# Altium schematic symbol library Resistor_0805.SchLib: 257 symbols (part 1 of 5)
Pins are listed as number, name and electrical type; pins without a type are passive.

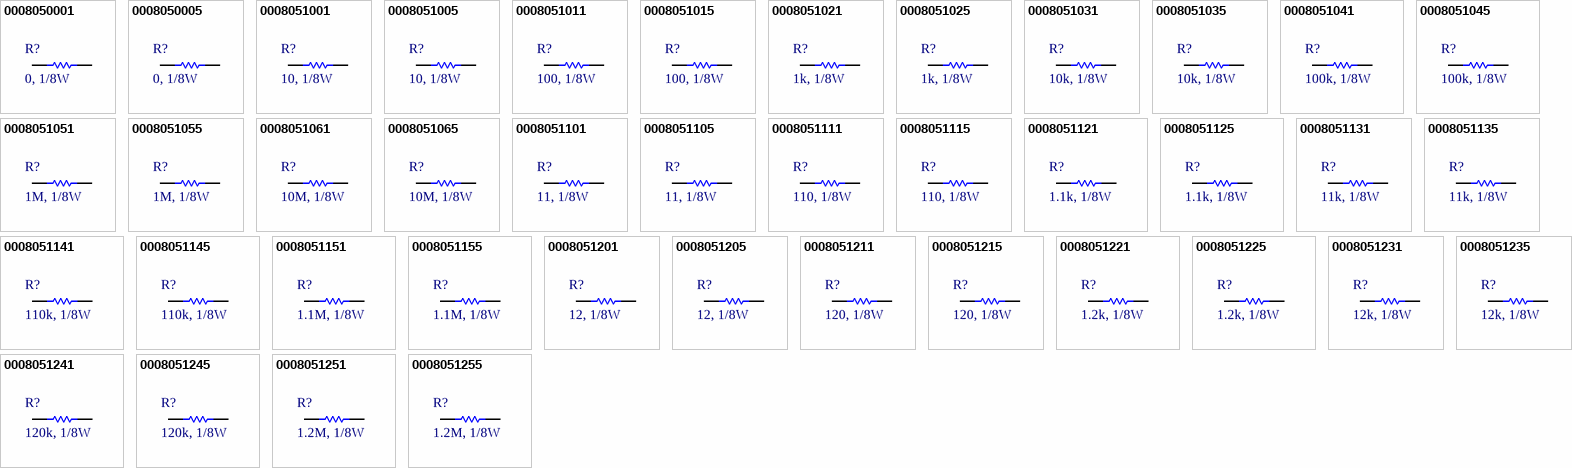
[diagram p0: symbols 0008050001 to 0008051255]

## 0008050001
designator R?, comment 0, 1/8W
RES, 0 Ohm, size 0805, 1%; Resistance tolerance: +/-1%; Resistance: 0; Size: 0805; Mounting Technology: SMT; Rated Power: 1/8 W; Datasheet: *; ComponentLink1Description: Datasheet link; ComponentLink1URL: *; Supply 1 Name: *; Supply 1 SN: *; Supply 1 URL: *; Supply 2 Name: *; Supply 2 SN: *; Supply 2 URL: *; Supply 3 Name: *; Supply 3 SN: *; Supply 3 URL: *; Manufacture  Name: *; Manufacture  SN: *
footprint RESC2012X04N (Chip Resistor, 2-Leads, Body 2,00x1,20mm, IPC Medium Density)
pins: 1, 2

## 0008050005
designator R?, comment 0, 1/8W
RES, 0 Ohm, size 0805, 5%; Resistance tolerance: +/-1%; Resistance: 0; Size: 0805; Mounting Technology: SMT; Rated Power: 1/8 W; Datasheet: *; ComponentLink1Description: Datasheet link; ComponentLink1URL: *; Supply 1 Name: *; Supply 1 SN: *; Supply 1 URL: *; Supply 2 Name: *; Supply 2 SN: *; Supply 2 URL: *; Supply 3 Name: *; Supply 3 SN: *; Supply 3 URL: *; Manufacture  Name: *; Manufacture  SN: *
footprint RESC2012X04N (Chip Resistor, 2-Leads, Body 2,00x1,20mm, IPC Medium Density)
pins: 1, 2

## 0008051001
designator R?, comment 10, 1/8W
RES, 10 Ohm, size 0805, 1%; Manufacture  Name: Vishay Dale Thin Film; Manufacture  SN: M55342H06B10D0RT5; Resistance tolerance: +/-1%; Resistance: 10; Supply 1 Name: DigiKey; Supply 1 SN: 764-M55342H06B10D0RT5TR-ND; Supply 2 Name: Mouser; Supply 2 SN: 71-CRCW080510R0FKEAH; Supply 3 Name: ThegioiIC; Size: 0805; Mounting Technology: SMT; Rated Power: 1/8 W; Datasheet: https://www.vishay.com/docs/60018/eh.pdf; ComponentLink1Description: Datasheet link; ComponentLink1URL: *; Supply 1 URL: https://www.digikey.com/en/products/detail/vishay-dale-thin-film/M55342H06B10D0RT5/3580812; Supply 2 URL: https://www.mouser.vn/ProductDetail/Vishay-Dale/CRCW080510R0FKEAHP?qs=sGAEpiMZZMtlubZbdhIBIB2QTI7Ai3Wq221SUXRDybo%3D; Supply 3 SN: *; Supply 3 URL: https://www.thegioiic.com/dien-tro-10-ohm-0805-1-
footprint RESC2012X04N (Chip Resistor, 2-Leads, Body 2,00x1,20mm, IPC Medium Density)
pins: 1, 2

## 0008051005
designator R?, comment 10, 1/8W
RES, 10 Ohm, size 0805, 5%; Manufacture  Name: TE Connectivity Passive Product; Manufacture  SN: CRGCQ0805J10R; Resistance tolerance: +/-5%; Resistance: 10; Supply 1 Name: DigiKey; Supply 1 SN: A130122TR-ND; Supply 2 Name: Mouser; Supply 2 SN: 71-CRCW080510R0JNEB; Supply 3 Name: ThegioiIC; Size: 0805; Mounting Technology: SMT; Rated Power: 1/8 W; Datasheet: https://www.te.com/usa-en/product-2176342-7.datasheet.pdf; ComponentLink1Description: Datasheet link; ComponentLink1URL: *; Supply 1 URL: https://www.digikey.com/en/products/detail/vishay-dale-thin-film/M55342H06B10D0RT5/3580812; Supply 2 URL: https://www.mouser.vn/ProductDetail/Vishay-Dale/CRCW080510R0JNEB?qs=LOX6nxTstiYdzgklIYN6GQ%3D%3D; Supply 3 SN: *; Supply 3 URL: https://www.thegioiic.com/dien-tro-10-ohm-0805-5-
footprint RESC2012X04N (Chip Resistor, 2-Leads, Body 2,00x1,20mm, IPC Medium Density)
pins: 1, 2

## 0008051011
designator R?, comment 100, 1/8W
RES, 100 Ohm, size 0805, 1%; Manufacture  Name: Vishay Dale Thin Film; Manufacture  SN: CRCW0805100RFKEB; Resistance tolerance: +/-1%; Resistance: 100; Supply 1 Name: DigiKey; Supply 1 SN: Y1624100R000F9R-ND; Supply 2 Name: Mouser; Supply 2 SN: 71-CRCW0805100RFKEB; Supply 3 Name: ThegioiIC; Size: 0805; Mounting Technology: SMT; Rated Power: 1/8 W; Datasheet: https://media.digikey.com/pdf/Data%20Sheets/Vishay%20Resistors/VSMP_Series_Z_Series_DS.pdf; ComponentLink1Description: Datasheet link; ComponentLink1URL: *; Supply 1 URL: https://www.digikey.com/en/products/detail/vpg-foil-resistors/Y1624100R000F9R/6026579; Supply 2 URL: https://www.mouser.vn/ProductDetail/Vishay-Dale/CRCW0805100RFKEB?qs=sGAEpiMZZMtlubZbdhIBIKpw3Cj3Rl3MFHVHXIgVmtw%3D; Supply 3 SN: *; Supply 3 URL: https://www.thegioiic.com/dien-tro-100-ohm-0805-1-
footprint RESC2012X04N (Chip Resistor, 2-Leads, Body 2,00x1,20mm, IPC Medium Density)
pins: 1, 2

## 0008051015
designator R?, comment 100, 1/8W
RES, 100 Ohm, size 0805, 5%; Manufacture  Name: Vishay Dale; Manufacture  SN: CRCW0805100RJNEAC; Resistance tolerance: +/-5%; Resistance: 100; Supply 1 Name: DigiKey; Supply 1 SN: 541-4166-2-ND; Supply 2 Name: Mouser; Supply 2 SN: 71-CRCW0805100RJNEA; Supply 3 Name: ThegioiIC; Size: 0805; Mounting Technology: SMT; Rated Power: 1/8 W; Datasheet: https://www.vishay.com/docs/28773/crcwce3.pdf; ComponentLink1Description: Datasheet link; ComponentLink1URL: *; Supply 1 URL: https://www.digikey.com/en/products/detail/vishay-dale/CRCW0805100RJNEAC/7928588; Supply 2 URL: https://www.mouser.vn/ProductDetail/Vishay-Dale/CRCW0805100RJNEA?qs=LOX6nxTstiYU5x3Np6dR5Q%3D%3D; Supply 3 SN: *; Supply 3 URL: https://www.thegioiic.com/dien-tro-100-ohm-0805-5
footprint RESC2012X04N (Chip Resistor, 2-Leads, Body 2,00x1,20mm, IPC Medium Density)
pins: 1, 2

## 0008051021
designator R?, comment 1k, 1/8W
RES, 1k Ohm, size 0805, 1%; Manufacture  Name: Vishay Dale; Manufacture  SN: M55342K06B1E00RS3; Resistance tolerance: +/-1%; Supply 1 Name: DigiKey; Supply 1 SN: 1135-1001-2-ND; Supply 3 Name: ThegioiIC; Size: 0805; Mounting Technology: SMT; Rated Power: 1/8 W; Datasheet: https://www.vishay.com/docs/31010/rcwpm.pdf; Resistance: 1k; ComponentLink1Description: Datasheet link; ComponentLink1URL: *; Supply 1 URL: https://www.digikey.com/en/products/detail/vishay-dale/M55342K06B1E00RS3/2941798; Supply 2 Name: *; Supply 2 SN: *; Supply 2 URL: *; Supply 3 SN: *; Supply 3 URL: https://www.thegioiic.com/dien-tro-1-kohm-0805-1
footprint RESC2012X04N (Chip Resistor, 2-Leads, Body 2,00x1,20mm, IPC Medium Density)
pins: 1, 2

## 0008051025
designator R?, comment 1k, 1/8W
RES, 1k Ohm, size 0805, 5%; Manufacture  Name: Vishay Dale; Manufacture  SN: CRCW08051K00JNEAC; Resistance tolerance: +/-5%; Supply 1 Name: DigiKey; Supply 1 SN: 541-4162-2-ND; Supply 2 Name: Mouser; Supply 2 SN: 71-CRCW08051K00JNEC; Supply 3 Name: ThegioiIC; Size: 0805; Mounting Technology: SMT; Rated Power: 1/8 W; Datasheet: https://www.vishay.com/docs/28773/crcwce3.pdf; Resistance: 1k; ComponentLink1Description: Datasheet link; ComponentLink1URL: *; Supply 1 URL: https://www.digikey.com/en/products/detail/vishay-dale/CRCW08051K00JNEAC/7928584; Supply 2 URL: https://www.mouser.vn/ProductDetail/Vishay-Dale/CRCW08051K00JNEC?qs=OW6ROCK%252BaiZqKFsNe9zjFw%3D%3D; Supply 3 SN: *; Supply 3 URL: https://www.thegioiic.com/dien-tro-1-kohm-0805-5-
footprint RESC2012X04N (Chip Resistor, 2-Leads, Body 2,00x1,20mm, IPC Medium Density)
pins: 1, 2

## 0008051031
designator R?, comment 10k, 1/8W
RES, 10k Ohm, size 0805, 1%; Resistance tolerance: +/-1%; Supply 3 Name: ThegioiIC; Size: 0805; Mounting Technology: SMT; Rated Power: 1/8 W; Datasheet: *; Resistance: 10k; ComponentLink1Description: Datasheet link; ComponentLink1URL: *; Supply 1 Name: *; Supply 1 SN: *; Supply 1 URL: *; Supply 2 Name: *; Supply 2 SN: *; Supply 2 URL: *; Supply 3 SN: *; Supply 3 URL: https://www.thegioiic.com/dien-tro-1-kohm-0805-1; Manufacture  Name: *; Manufacture  SN: *
footprint RESC2012X04N (Chip Resistor, 2-Leads, Body 2,00x1,20mm, IPC Medium Density)
pins: 1, 2

## 0008051035
designator R?, comment 10k, 1/8W
RES, 10k Ohm, size 0805, 5%; Manufacture  Name: Vishay Dale; Manufacture  SN: CRCW080510K0JNEAC; Resistance tolerance: +/-5%; Supply 1 Name: DigiKey; Supply 1 SN: 541-4163-2-ND; Supply 2 Name: Mouser; Supply 2 SN: 71-CRCW080510K0JNEB; Supply 3 Name: ThegioiIC; Size: 0805; Mounting Technology: SMT; Rated Power: 1/8 W; Datasheet: https://www.vishay.com/docs/28773/crcwce3.pdf; Resistance: 10k; ComponentLink1Description: Datasheet link; ComponentLink1URL: *; Supply 1 URL: https://www.digikey.com/en/products/detail/vishay-dale/CRCW080510K0JNEAC/7928585; Supply 2 URL: https://www.mouser.vn/ProductDetail/Vishay-Dale/CRCW080510K0JNEB?qs=LOX6nxTstiZ5fn9YUdHx5A%3D%3D; Supply 3 SN: *; Supply 3 URL: CRCW080510K0JNEAC
footprint RESC2012X04N (Chip Resistor, 2-Leads, Body 2,00x1,20mm, IPC Medium Density)
pins: 1, 2

## 0008051041
designator R?, comment 100k, 1/8W
RES, 100k Ohm, size 0805, 1%; Manufacture  Name: Vishay Dale; Manufacture  SN: M55342K06B100ERS3; Resistance tolerance: +/-1%; Supply 1 Name: DigiKey; Supply 1 SN: 1135-1002-2-ND; Supply 3 Name: ThegioiIC; Size: 0805; Mounting Technology: SMT; Rated Power: 1/8 W; Datasheet: *; Resistance: 100k; ComponentLink1Description: Datasheet link; ComponentLink1URL: *; Supply 1 URL: https://www.digikey.com/en/products/detail/vishay-dale/M55342K06B100ERS3/2941800; Supply 2 Name: *; Supply 2 SN: *; Supply 2 URL: *; Supply 3 SN: *; Supply 3 URL: M55342K06B100ERS3
footprint RESC2012X04N (Chip Resistor, 2-Leads, Body 2,00x1,20mm, IPC Medium Density)
pins: 1, 2

## 0008051045
designator R?, comment 100k, 1/8W
RES, 100k Ohm, size 0805, 5%; Manufacture  Name: Vishay Dale; Manufacture  SN: CRCW0805100KJNEAC; Resistance tolerance: +/-5%; Supply 1 Name: DigiKey; Supply 1 SN: 541-4164-2-ND; Supply 2 Name: Mouser; Supply 2 SN: 71-CRCW0805100KJNEC; Supply 3 Name: ThegioiIC; Size: 0805; Mounting Technology: SMT; Rated Power: 1/8 W; Datasheet: https://www.vishay.com/docs/28773/crcwce3.pdf; Resistance: 100k; ComponentLink1Description: Datasheet link; ComponentLink1URL: *; Supply 1 URL: https://www.digikey.com/en/products/detail/vishay-dale/CRCW0805100KJNEAC/7928586; Supply 2 URL: https://www.mouser.vn/ProductDetail/Vishay-Dale/CRCW0805100KJNEC?qs=waxnFHLl2hDcBYyAQZ2bVA%3D%3D; Supply 3 SN: *; Supply 3 URL: M55342K06B100ERS3
footprint RESC2012X04N (Chip Resistor, 2-Leads, Body 2,00x1,20mm, IPC Medium Density)
pins: 1, 2

## 0008051051
designator R?, comment 1M, 1/8W
RES, 1M Ohm, size 0805, 1%; Manufacture  Name: Vishay Dale; Manufacture  SN: M55342K06B1F00RS3; Resistance tolerance: +/-1%; Supply 1 Name: DigiKey; Supply 1 SN: 1135-1009-2-ND; Supply 3 Name: ThegioiIC; Size: 0805; Mounting Technology: SMT; Rated Power: 1/8 W; Datasheet: *; Resistance: 1M; ComponentLink1Description: Datasheet link; ComponentLink1URL: *; Supply 1 URL: https://www.digikey.com/en/products/detail/vishay-dale/M55342K06B1F00RS3/2941807?s=N4IgjCBcoMxaBjKAzAhgGwM4FMA0IB7KAbXDBggF18AHAFyhAGU6AnASwDsBzEAX3xgAbPBBJIaLHkIkQMAJwwATPJDUQ9Riw49%2B%2BACwjoYlBhz4ikUgA4A7MrW0GkZmy68BIJQAZrAVlFxSXMZK3AAAgBZAHkACwBbTEcNZxAAVU52OmjkSOxUTABXVmx%2BPj4gA; Supply 2 Name: *; Supply 2 SN: *; Supply 2 URL: *; Supply 3 SN: *; Supply 3 URL: https://www.thegioiic.com/dien-tro-1-mohm-0805-1
footprint RESC2012X04N (Chip Resistor, 2-Leads, Body 2,00x1,20mm, IPC Medium Density)
pins: 1, 2

## 0008051055
designator R?, comment 1M, 1/8W
RES, 1M Ohm, size 0805, 5%; Manufacture  Name: Vishay Dale; Manufacture  SN: CRCW08051M00JNEAC; Resistance tolerance: +/-5%; Supply 1 Name: DigiKey; Supply 1 SN: 541-CRCW08051M00JNEACTR-ND; Supply 2 Name: Mouser; Supply 2 SN: 71-CRCW0805J-1M-E3; Supply 3 Name: ThegioiIC; Size: 0805; Mounting Technology: SMT; Rated Power: 1/8 W; Datasheet: https://www.vishay.com/docs/28773/crcwce3.pdf; Resistance: 1M; ComponentLink1Description: Datasheet link; ComponentLink1URL: *; Supply 1 URL: https://www.digikey.com/en/products/detail/vishay-dale/CRCW08051M00JNEAC/7923683; Supply 2 URL: https://www.mouser.vn/ProductDetail/Vishay-Dale/CRCW08051M00JNEA?qs=1CkV0QOCgMqcQMPfmcgFvg%3D%3D; Supply 3 SN: *; Supply 3 URL: https://www.thegioiic.com/dien-tro-1-mohm-0805-5
footprint RESC2012X04N (Chip Resistor, 2-Leads, Body 2,00x1,20mm, IPC Medium Density)
pins: 1, 2

## 0008051061
designator R?, comment 10M, 1/8W
RES, 10M Ohm, size 0805, 1%; Manufacture  Name: Vishay Dale; Manufacture  SN: CRCW08051M00FKEAC; Resistance tolerance: +/-1%; Supply 1 Name: DigiKey; Supply 1 SN: 541-4135-2-ND; Supply 3 Name: ThegioiIC; Size: 0805; Mounting Technology: SMT; Rated Power: 1/8 W; Datasheet: https://www.vishay.com/docs/28773/crcwce3.pdf; Resistance: 10M; ComponentLink1Description: Datasheet link; ComponentLink1URL: *; Supply 1 URL: https://www.digikey.com/en/products/detail/vishay-dale/CRCW08051M00FKEAC/7928557; Supply 2 Name: *; Supply 2 SN: *; Supply 2 URL: *; Supply 3 SN: *; Supply 3 URL: https://www.digikey.com/en/products/detail/vishay-dale/CRCW08051M00FKEAC/7928557
footprint RESC2012X04N (Chip Resistor, 2-Leads, Body 2,00x1,20mm, IPC Medium Density)
pins: 1, 2

## 0008051065
designator R?, comment 10M, 1/8W
RES, 10M Ohm, size 0805, 5%; Manufacture  Name: Vishay Dale; Manufacture  SN: CRCW080510M0JNEA; Resistance tolerance: +/-5%; Supply 1 Name: DigiKey; Supply 1 SN: 541-10MATR-ND; Supply 2 Name: Mouser; Supply 2 SN: 71-RCV080510M0JNEA; Supply 3 Name: ThegioiIC; Size: 0805; Mounting Technology: SMT; Rated Power: 1/8 W; Datasheet: https://www.vishay.com/docs/20035/dcrcwe3.pdf; Resistance: 10M; ComponentLink1Description: Datasheet link; ComponentLink1URL: *; Supply 1 URL: https://www.digikey.com/en/products/detail/vishay-dale/CRCW080510M0JNEA/1175294; Supply 2 URL: https://www.mouser.vn/ProductDetail/Vishay-Draloric/RCV080510M0JNEA?qs=%252BZJHVReOaHr6BtmMLn%2FzAw%3D%3D; Supply 3 SN: *; Supply 3 URL: https://www.digikey.com/en/products/detail/vishay-dale/CRCW080510M0JNEA/1175294
footprint RESC2012X04N (Chip Resistor, 2-Leads, Body 2,00x1,20mm, IPC Medium Density)
pins: 1, 2

## 0008051101
designator R?, comment 11, 1/8W
RES, 11 Ohm, size 0805, 1%; Manufacture  Name: Vishay Dale; Manufacture  SN: CRCW080511R0FKTA; Resistance tolerance: +/-1%; Resistance: 11; Supply 1 Name: DigiKey; Supply 1 SN: 541-11.0CTR-ND; Supply 2 Name: Mouser; Supply 2 SN: 71-CRCW0805-11; Size: 0805; Mounting Technology: SMT; Rated Power: 1/8 W; Datasheet: https://www.vishay.com/docs/20035/dcrcwe3.pdf; ComponentLink1Description: Datasheet link; ComponentLink1URL: *; Supply 1 URL: https://www.digikey.com/en/products/detail/vishay-dale/CRCW080511R0FKEA/1175413; Supply 2 URL: https://www.mouser.vn/ProductDetail/Vishay-Dale/CRCW080511R0FKTA?qs=ZOFh%252BZEbFTDhCA9Hrh30Zw%3D%3D; Supply 3 Name: *; Supply 3 SN: *; Supply 3 URL: *
footprint Model Name (Model Description)
footprint RESC2012X04N (Chip Resistor, 2-Leads, Body 2,00x1,20mm, IPC Medium Density)
pins: 1, 2

## 0008051105
designator R?, comment 11, 1/8W
RES, 11 Ohm, size 0805, 5%; Manufacture  Name: Vishay Dale; Manufacture  SN: CRCW080511R0JNEAC; Resistance tolerance: +/-5%; Resistance: 11; Supply 1 Name: DigiKey; Supply 1 SN: CRCW080511R0JNEAC-ND; Supply 2 Name: Mouser; Supply 2 SN: 71-CRCW080511R0JNEA; Supply 3 Name: ThegioiIC; Size: 0805; Mounting Technology: SMT; Rated Power: 1/8 W; Datasheet: https://www.vishay.com/docs/28773/crcwce3.pdf; ComponentLink1Description: Datasheet link; ComponentLink1URL: *; Supply 1 URL: https://www.digikey.com/en/products/detail/vishay-dale/CRCW080511R0JNEAC/7923816; Supply 2 URL: https://www.mouser.vn/ProductDetail/Vishay-Dale/CRCW080511R0JNEA?qs=RG5hTW80OZI1ijzqZ4Fwzg%3D%3D; Supply 3 SN: *; Supply 3 URL: https://www.thegioiic.com/dien-tro-11-ohm-0805-5-
footprint RESC2012X04N (Chip Resistor, 2-Leads, Body 2,00x1,20mm, IPC Medium Density)
pins: 1, 2

## 0008051111
designator R?, comment 110, 1/8W
RES, 110 Ohm, size 0805, 1%; Manufacture  Name: Vishay Dale; Manufacture  SN: CRCW0805110RFKEA; Resistance tolerance: +/-1%; Resistance: 110; Supply 1 Name: DigiKey; Supply 1 SN: 541-110CTR-ND; Supply 2 Name: Mouser; Supply 2 SN: 71-CRCW0805110RFKEAC; Size: 0805; Mounting Technology: SMT; Rated Power: 1/8 W; Datasheet: https://www.vishay.com/docs/20035/dcrcwe3.pdf; ComponentLink1Description: Datasheet link; ComponentLink1URL: *; Supply 1 URL: https://www.digikey.com/en/products/detail/vishay-dale/CRCW0805110RFKEA/1175527; Supply 2 URL: https://www.mouser.vn/ProductDetail/Vishay-Dale/CRCW0805110RFKEAC?qs=E3Y5ESvWgWMNpf%252BYjZabPQ%3D%3D; Supply 3 Name: *; Supply 3 SN: *; Supply 3 URL: *
footprint RESC2012X04N (Chip Resistor, 2-Leads, Body 2,00x1,20mm, IPC Medium Density)
pins: 1, 2

## 0008051115
designator R?, comment 110, 1/8W
RES, 110 Ohm, size 0805, 5%; Manufacture  Name: Vishay Dale; Manufacture  SN: CRCW0805110RFKEA; Resistance tolerance: +/-5%; Resistance: 110; Supply 1 Name: DigiKey; Supply 1 SN: 541-110ATR-ND; Supply 2 Name: Mouser; Supply 2 SN: 71-CRCW0805110RJNEA; Supply 3 Name: ThegioiIC; Size: 0805; Mounting Technology: SMT; Rated Power: 1/8 W; Datasheet: https://www.vishay.com/docs/20035/dcrcwe3.pdf; ComponentLink1Description: Datasheet link; ComponentLink1URL: *; Supply 1 URL: https://www.digikey.com/en/products/detail/vishay-dale/CRCW0805110RJNEA/1175175; Supply 2 URL: https://www.mouser.vn/ProductDetail/Vishay-Dale/CRCW0805110RJNEA?qs=RG5hTW80OZJqHt0GVT%2FlyA%3D%3D; Supply 3 SN: *; Supply 3 URL: https://www.thegioiic.com/dien-tro-110-kohm-0805-5
footprint RESC2012X04N (Chip Resistor, 2-Leads, Body 2,00x1,20mm, IPC Medium Density)
pins: 1, 2

## 0008051121
designator R?, comment 1.1k, 1/8W
RES, 1.1k Ohm, size 0805, 1%; Manufacture  Name: Vishay Dale; Manufacture  SN: CRCW08051K10FKEAC; Resistance tolerance: +/-1%; Supply 1 Name: DigiKey; Supply 1 SN: 541-CRCW08051K10FKEACTR-ND; Supply 2 Name: Mouser; Supply 2 SN: 71-CRCW0805-1.1K; Size: 0805; Mounting Technology: SMT; Rated Power: 1/8 W; Datasheet: https://www.vishay.com/docs/28773/crcwce3.pdf; Resistance: 1.1k; ComponentLink1Description: Datasheet link; ComponentLink1URL: *; Supply 1 URL: https://www.digikey.com/en/products/detail/vishay-dale/CRCW08051K10FKEAC/7922296; Supply 2 URL: https://www.mouser.vn/ProductDetail/Vishay-Dale/CRCW08051K10FKTA?qs=kcr0bk%252BxakCLwlR%2FUomifg%3D%3D; Supply 3 Name: *; Supply 3 SN: *; Supply 3 URL: *
footprint RESC2012X04N (Chip Resistor, 2-Leads, Body 2,00x1,20mm, IPC Medium Density)
pins: 1, 2

## 0008051125
designator R?, comment 1.1k, 1/8W
RES, 1.1k Ohm, size 0805, 5%; Manufacture  Name: Vishay Dale; Manufacture  SN: CRCW08051K10JNEA; Resistance tolerance: +/-5%; Supply 1 Name: DigiKey; Supply 1 SN: 541-1.1KATR-ND; Supply 2 Name: Mouser; Supply 2 SN: 71-CRCW08051K10JNEA; Supply 3 Name: ThegioiIC; Size: 0805; Mounting Technology: SMT; Rated Power: 1/8 W; Datasheet: https://www.vishay.com/docs/28773/crcwce3.pdf; Resistance: 1.1k; ComponentLink1Description: Datasheet link; ComponentLink1URL: *; Supply 1 URL: https://www.digikey.com/en/products/detail/vishay-dale/CRCW08051K10JNEA/1175199; Supply 2 URL: https://www.mouser.vn/ProductDetail/Vishay-Dale/CRCW08051K10JNEA?qs=DZvKvnD5UYUcTcO5Q3S%252BBw%3D%3D; Supply 3 SN: *; Supply 3 URL: https://www.thegioiic.com/dien-tro-1-1-kohm-0805-5
footprint RESC2012X04N (Chip Resistor, 2-Leads, Body 2,00x1,20mm, IPC Medium Density)
pins: 1, 2

## 0008051131
designator R?, comment 11k, 1/8W
RES, 11k Ohm, size 0805, 1%; Manufacture  Name: Vishay Dale; Manufacture  SN: CRCW080511K0FKEA; Resistance tolerance: +/-1%; Supply 1 Name: DigiKey; Supply 1 SN: 541-11.0KCTR-ND; Supply 2 Name: Mouser; Supply 2 SN: 71-CRCW0805-11K-E3; Size: 0805; Mounting Technology: SMT; Rated Power: 1/8 W; Datasheet: *; Resistance: 11k; ComponentLink1Description: Datasheet link; ComponentLink1URL: *; Supply 1 URL: https://www.digikey.com/en/products/detail/vishay-dale/CRCW080511K0FKEA/1175755; Supply 2 URL: https://www.mouser.vn/ProductDetail/Vishay-Dale/CRCW080511K0FKEA?qs=RG5hTW80OZLEp%2FQ5LVKZyw%3D%3D; Supply 3 Name: *; Supply 3 SN: *; Supply 3 URL: *
footprint RESC2012X04N (Chip Resistor, 2-Leads, Body 2,00x1,20mm, IPC Medium Density)
pins: 1, 2

## 0008051135
designator R?, comment 11k, 1/8W
RES, 11k Ohm, size 0805, 5%; Manufacture  Name: Vishay Dale; Manufacture  SN: CRCW080511K0JNEA; Resistance tolerance: +/-5%; Supply 1 Name: DigiKey; Supply 1 SN: 541-11KATR-ND; Supply 2 Name: Mouser; Supply 2 SN: 71-CRCW0805J-11K-E3; Supply 3 Name: ThegioiIC; Size: 0805; Mounting Technology: SMT; Rated Power: 1/8 W; Datasheet: https://www.vishay.com/docs/20035/dcrcwe3.pdf; Resistance: 11k; ComponentLink1Description: Datasheet link; ComponentLink1URL: *; Supply 1 URL: https://www.digikey.com/en/products/detail/vishay-dale/CRCW080511K0JNEA/1175223; Supply 2 URL: https://www.mouser.vn/ProductDetail/Vishay-Dale/CRCW080511K0JNEA?qs=RG5hTW80OZLjmZsjWPwJOg%3D%3D; Supply 3 SN: *; Supply 3 URL: https://www.thegioiic.com/dien-tro-11-kohm-0805-5
footprint RESC2012X04N (Chip Resistor, 2-Leads, Body 2,00x1,20mm, IPC Medium Density)
pins: 1, 2

## 0008051141
designator R?, comment 110k, 1/8W
RES, 110k Ohm, size 0805, 1%; Manufacture  Name: Vishay Dale; Manufacture  SN: CRCW0805110KFKEAC; Resistance tolerance: +/-1%; Supply 1 Name: DigiKey; Supply 1 SN: 541-CRCW0805110KFKEACTR-ND; Supply 2 Name: Mouser; Supply 2 SN: 71-CRCW0805-110K; Supply 3 Name: ThegioiIC; Size: 0805; Mounting Technology: SMT; Rated Power: 1/8 W; Datasheet: https://www.vishay.com/docs/28773/crcwce3.pdf; Resistance: 110k; ComponentLink1Description: Datasheet link; ComponentLink1URL: *; Supply 1 URL: https://www.digikey.com/en/products/detail/vishay-dale/CRCW0805110KFKEAC/7922420; Supply 2 URL: https://www.mouser.vn/ProductDetail/Vishay-Dale/CRCW0805110KFKTA?qs=lAAKfumqcshWZsupBauqGw%3D%3D; Supply 3 SN: *; Supply 3 URL: https://www.thegioiic.com/dien-tro-110-kohm-0805-1-
footprint RESC2012X04N (Chip Resistor, 2-Leads, Body 2,00x1,20mm, IPC Medium Density)
pins: 1, 2

## 0008051145
designator R?, comment 110k, 1/8W
RES, 110k Ohm, size 0805, 5%; Manufacture  Name: Vishay Dale; Manufacture  SN: CRCW0805110KJNEAC; Resistance tolerance: +/-5%; Supply 1 Name: DigiKey; Supply 1 SN: CRCW0805110KJNEAC-ND; Supply 2 Name: Mouser; Supply 2 SN: 71-CRCW0805110KJNEA; Supply 3 Name: ThegioiIC; Size: 0805; Mounting Technology: SMT; Rated Power: 1/8 W; Datasheet: https://www.vishay.com/docs/28773/crcwce3.pdf; Resistance: 110k; ComponentLink1Description: Datasheet link; ComponentLink1URL: *; Supply 1 URL: https://www.digikey.com/en/products/detail/vishay-dale/CRCW0805110KJNEAC/7923811; Supply 2 URL: https://www.mouser.vn/ProductDetail/Vishay-Dale/CRCW0805110KJNEA?qs=LOX6nxTstiYWgn0ISge4KA%3D%3D; Supply 3 SN: *; Supply 3 URL: https://www.thegioiic.com/dien-tro-110-kohm-0805-5
footprint RESC2012X04N (Chip Resistor, 2-Leads, Body 2,00x1,20mm, IPC Medium Density)
pins: 1, 2

## 0008051151
designator R?, comment 1.1M, 1/8W
RES, 1.1M Ohm, size 0805, 1%; Manufacture  Name: Vishay Dale; Manufacture  SN: CRCW08051M10FKEA; Resistance tolerance: +/-1%; Supply 1 Name: DigiKey; Supply 1 SN: 541-1.10MCTR-ND; Supply 2 Name: Mouser; Supply 2 SN: 71-CRCW08051M10FKEA; Size: 0805; Mounting Technology: SMT; Rated Power: 1/8 W; Datasheet: https://www.vishay.com/docs/20035/dcrcwe3.pdf; Resistance: 1.1M; ComponentLink1Description: Datasheet link; ComponentLink1URL: *; Supply 1 URL: https://www.digikey.com/en/products/detail/vishay-dale/CRCW08051M10FKEA/1176020; Supply 2 URL: https://www.mouser.vn/ProductDetail/Vishay-Dale/CRCW08051M10FKEA?qs=1CkV0QOCgMonU8HVfJOxww%3D%3D; Supply 3 Name: *; Supply 3 SN: *; Supply 3 URL: *
footprint RESC2012X04N (Chip Resistor, 2-Leads, Body 2,00x1,20mm, IPC Medium Density)
pins: 1, 2

## 0008051155
designator R?, comment 1.1M, 1/8W
RES, 1.1M Ohm, size 0805, 5%; Manufacture  Name: Vishay Dale; Manufacture  SN: CRCW08051M10JNEAC; Resistance tolerance: +/-5%; Supply 1 Name: DigiKey; Supply 1 SN: CRCW08051M10JNEAC-ND; Supply 2 Name: Mouser; Supply 2 SN: 71-CRCW0805J-1.1M; Supply 3 Name: ThegioiIC; Size: 0805; Mounting Technology: SMT; Rated Power: 1/8 W; Datasheet: https://www.vishay.com/docs/28773/crcwce3.pdf; Resistance: 1.1M; ComponentLink1Description: Datasheet link; ComponentLink1URL: *; Supply 1 URL: https://www.digikey.com/en/products/detail/vishay-dale/CRCW08051M10JNEAC/7923848; Supply 2 URL: https://www.mouser.vn/ProductDetail/Vishay-Dale/CRCW08051M10JNTA?qs=5w%2FwobBlTbKF7Ocr2yYivA%3D%3D; Supply 3 SN: *; Supply 3 URL: https://www.thegioiic.com/dien-tro-1-1-mohm-0805-5
footprint RESC2012X04N (Chip Resistor, 2-Leads, Body 2,00x1,20mm, IPC Medium Density)
pins: 1, 2

## 0008051201
designator R?, comment 12, 1/8W
RES, 12 Ohm, size 0805, 1%; Manufacture  Name: Vishay Dale; Manufacture  SN: CRCW080512R0FKEA; Resistance tolerance: +/-1%; Resistance: 12; Supply 1 Name: DigiKey; Supply 1 SN: 541-12.0CTR-ND; Supply 2 Name: Mouser; Supply 2 SN: 71-CRCW080512R0FKEA; Supply 3 Name: ThegioiIC; Size: 0805; Mounting Technology: SMT; Rated Power: 1/8 W; Datasheet: *; ComponentLink1Description: Datasheet link; ComponentLink1URL: *; Supply 1 URL: https://www.digikey.com/en/products/detail/vishay-dale/CRCW080512R0FKEA/1175417; Supply 2 URL: https://www.mouser.vn/ProductDetail/Vishay-Dale/CRCW080512R0FKEA?qs=0y7Riw94L4im3ZmXAo%252BFfQ%3D%3D; Supply 3 URL: https://www.thegioiic.com/dien-tro-12-ohm-0805-1-
footprint RESC2012X04N (Chip Resistor, 2-Leads, Body 2,00x1,20mm, IPC Medium Density)
pins: 1, 2

## 0008051205
designator R?, comment 12, 1/8W
RES, 12 Ohm, size 0805, 5%; Manufacture  Name: Vishay Dale; Manufacture  SN: CRCW080512R0JNEA; Resistance tolerance: +/-5%; Resistance: 12; Supply 1 Name: DigiKey; Supply 1 SN: 541-12ATR-ND; Supply 2 Name: Mouser; Supply 2 SN: 71-CRCW080512R0JNEA; Supply 3 Name: ThegioiIC; Size: 0805; Mounting Technology: SMT; Rated Power: 1/8 W; Datasheet: https://www.vishay.com/docs/20035/dcrcwe3.pdf; ComponentLink1Description: Datasheet link; ComponentLink1URL: *; Supply 1 URL: https://www.digikey.com/en/products/detail/vishay-dale/CRCW080512R0JNEA/1175152; Supply 2 URL: https://www.mouser.vn/ProductDetail/Vishay-Dale/CRCW080512R0JNEA?qs=0y7Riw94L4hpzrfVlTNTMg%3D%3D; Supply 3 URL: https://www.thegioiic.com/dien-tro-1-1-mohm-0805-5
footprint RESC2012X04N (Chip Resistor, 2-Leads, Body 2,00x1,20mm, IPC Medium Density)
pins: 1, 2

## 0008051211
designator R?, comment 120, 1/8W
RES, 120 Ohm, size 0805, 1%; Manufacture  Name: Vishay Dale; Manufacture  SN: CRCW0805120RFKEAC; Resistance tolerance: +/-1%; Resistance: 120; Supply 1 Name: DigiKey; Supply 1 SN: 541-CRCW0805120RFKEACTR-ND; Supply 2 Name: Mouser; Supply 2 SN: 71-CRCW0805120RFKEAC; Size: 0805; Mounting Technology: SMT; Rated Power: 1/8 W; Datasheet: https://www.vishay.com/docs/28773/crcwce3.pdf; ComponentLink1Description: Datasheet link; ComponentLink1URL: *; Supply 1 URL: https://www.digikey.com/en/products/detail/vishay-dale/CRCW0805120RFKEAC/7922316; Supply 2 URL: https://www.mouser.vn/ProductDetail/Vishay-Dale/CRCW0805120RFKEAC?qs=E3Y5ESvWgWNkSFxCW%252BJprQ%3D%3D; Supply 3 Name: *; Supply 3 SN: *; Supply 3 URL: *
footprint RESC2012X04N (Chip Resistor, 2-Leads, Body 2,00x1,20mm, IPC Medium Density)
pins: 1, 2

## 0008051215
designator R?, comment 120, 1/8W
RES, 120 Ohm, size 0805, 5%; Manufacture  Name: Vishay Dale; Manufacture  SN: CRCW0805120RJNEA; Resistance tolerance: +/-5%; Resistance: 120; Supply 1 Name: DigiKey; Supply 1 SN: 541-120ATR-ND; Supply 2 Name: Mouser; Supply 2 SN: 71-CRCW0805120RJNEA; Supply 3 Name: ThegioiIC; Size: 0805; Mounting Technology: SMT; Rated Power: 1/8 W; Datasheet: https://www.vishay.com/docs/20035/dcrcwe3.pdf; ComponentLink1Description: Datasheet link; ComponentLink1URL: *; Supply 1 URL: https://www.digikey.com/en/products/detail/vishay-dale/CRCW0805120RJNEA/1175176; Supply 2 URL: https://www.mouser.vn/ProductDetail/Vishay-Dale/CRCW0805120RJNEA?qs=RG5hTW80OZL%252BSuUGN6l0YA%3D%3D; Supply 3 SN: *; Supply 3 URL: https://www.thegioiic.com/dien-tro-120-ohm-0805-5-
footprint RESC2012X04N (Chip Resistor, 2-Leads, Body 2,00x1,20mm, IPC Medium Density)
pins: 1, 2

## 0008051221
designator R?, comment 1.2k, 1/8W
RES, 1.2k Ohm, size 0805, 1%; Manufacture  Name: Vishay Dale; Manufacture  SN: CRCW08051K20FKEAC; Resistance tolerance: +/-1%; Supply 1 Name: DigiKey; Supply 1 SN: 541-CRCW08051K20FKEACTR-ND; Supply 2 Name: Mouser; Supply 2 SN: 71-CRCW0805-1.2K; Supply 3 Name: ThegioiIC; Size: 0805; Mounting Technology: SMT; Rated Power: 1/8 W; Datasheet: https://www.vishay.com/docs/28773/crcwce3.pdf; Resistance: 1.2k; ComponentLink1Description: Datasheet link; ComponentLink1URL: *; Supply 1 URL: https://www.digikey.com/en/products/detail/vishay-dale/CRCW08051K20FKEAC/7922327; Supply 2 URL: https://www.mouser.vn/ProductDetail/Vishay-Dale/CRCW08051K20FKTA?qs=xLmuQgtoMPPFT9OsB3td2Q%3D%3D; Supply 3 SN: *; Supply 3 URL: https://www.thegioiic.com/dien-tro-1-2-kohm-0805-1-
footprint RESC2012X04N (Chip Resistor, 2-Leads, Body 2,00x1,20mm, IPC Medium Density)
pins: 1, 2

## 0008051225
designator R?, comment 1.2k, 1/8W
RES, 1.2k Ohm, size 0805, 5%; Manufacture  Name: Vishay Dale; Manufacture  SN: CRCW08051K20JNEA; Resistance tolerance: +/-5%; Supply 1 Name: DigiKey; Supply 1 SN: 541-1.2KATR-ND; Supply 2 Name: Mouser; Supply 2 SN: 71-CRCW0805J-1.2K; Supply 3 Name: ThegioiIC; Size: 0805; Mounting Technology: SMT; Rated Power: 1/8 W; Datasheet: https://www.vishay.com/docs/20035/dcrcwe3.pdf; Resistance: 1.2k; ComponentLink1Description: Datasheet link; ComponentLink1URL: *; Supply 1 URL: https://www.digikey.com/en/products/detail/vishay-dale/CRCW08051K20JNEA/1175200; Supply 2 URL: https://www.mouser.vn/ProductDetail/Vishay-Dale/CRCW08051K20JNTA?qs=ihJ2iVknB9v1dN2NZA89OA%3D%3D; Supply 3 SN: *; Supply 3 URL: https://www.thegioiic.com/dien-tro-1-2-kohm-0805-5
footprint RESC2012X04N (Chip Resistor, 2-Leads, Body 2,00x1,20mm, IPC Medium Density)
pins: 1, 2

## 0008051231
designator R?, comment 12k, 1/8W
RES, 12k Ohm, size 0805, 1%; Manufacture  Name: Vishay Dale; Manufacture  SN: CRCW080512K0FKEAC; Resistance tolerance: +/-1%; Supply 1 Name: DigiKey; Supply 1 SN: 541-CRCW080512K0FKEACTR-ND; Supply 2 Name: Mouser; Supply 2 SN: 71-CRCW080512K0FKEA; Supply 3 Name: ThegioiIC; Size: 0805; Mounting Technology: SMT; Rated Power: 1/8 W; Datasheet: https://www.vishay.com/docs/28773/crcwce3.pdf; Resistance: 12k; ComponentLink1Description: Datasheet link; ComponentLink1URL: *; Supply 1 URL: https://www.digikey.com/en/products/detail/vishay-dale/CRCW080512K0FKEAC/7922348; Supply 2 URL: https://www.mouser.vn/ProductDetail/Vishay-Dale/CRCW080512K0FKEA?qs=0y7Riw94L4gQIm4gt5oa2A%3D%3D; Supply 3 SN: *; Supply 3 URL: https://www.thegioiic.com/dien-tro-12-kohm-0805-1
footprint RESC2012X04N (Chip Resistor, 2-Leads, Body 2,00x1,20mm, IPC Medium Density)
pins: 1, 2

## 0008051235
designator R?, comment 12k, 1/8W
RES, 12k Ohm, size 0805, 5%; Manufacture  Name: Vishay Dale; Manufacture  SN: CRCW080512K0FKEAC; Resistance tolerance: +/-5%; Supply 1 Name: DigiKey; Supply 1 SN: 541-12KATR-ND; Supply 2 Name: Mouser; Supply 2 SN: 71-CRCW080512K0JNEA; Supply 3 Name: ThegioiIC; Size: 0805; Mounting Technology: SMT; Rated Power: 1/8 W; Datasheet: https://www.vishay.com/docs/20035/dcrcwe3.pdf; Resistance: 12k; ComponentLink1Description: Datasheet link; ComponentLink1URL: *; Supply 1 URL: https://www.digikey.com/en/products/detail/vishay-dale/CRCW080512K0JNEA/1175224; Supply 2 URL: https://www.mouser.vn/ProductDetail/Vishay-Dale/CRCW080512K0JNEA?qs=0y7Riw94L4j20XDG43nIlg%3D%3D; Supply 3 SN: *; Supply 3 URL: https://www.vishay.com/docs/20035/dcrcwe3.pdf
footprint RESC2012X04N (Chip Resistor, 2-Leads, Body 2,00x1,20mm, IPC Medium Density)
pins: 1, 2

## 0008051241
designator R?, comment 120k, 1/8W
RES, 120k Ohm, size 0805, 1%; Manufacture  Name: Vishay Dale; Manufacture  SN: CRCW0805120KFKEB; Resistance tolerance: +/-1%; Supply 1 Name: DigiKey; Supply 1 SN: 541-CRCW0805120KFKEBTR-ND; Supply 2 Name: Mouser; Supply 2 SN: 71-CRCW0805120KFKEAC; Size: 0805; Mounting Technology: SMT; Rated Power: 1/8 W; Datasheet: https://www.vishay.com/docs/20035/dcrcwe3.pdf; Resistance: 120k; ComponentLink1Description: Datasheet link; ComponentLink1URL: *; Supply 1 URL: https://www.digikey.com/en/products/detail/vishay-dale/CRCW0805120KFKEB/5073706; Supply 2 URL: https://www.mouser.vn/ProductDetail/Vishay-Dale/CRCW0805120KFKEAC?qs=E3Y5ESvWgWPz1L64z3fNYQ%3D%3D; Supply 3 Name: *; Supply 3 SN: *; Supply 3 URL: *
footprint RESC2012X04N (Chip Resistor, 2-Leads, Body 2,00x1,20mm, IPC Medium Density)
pins: 1, 2

## 0008051245
designator R?, comment 120k, 1/8W
RES, 120k Ohm, size 0805, 5%; Manufacture  Name: Vishay Dale; Manufacture  SN: CRCW0805120KJNEA; Resistance tolerance: +/-5%; Supply 1 Name: DigiKey; Supply 1 SN: 541-120KATR-ND; Supply 2 Name: Mouser; Supply 2 SN: 71-CRCW0805120KJNEA; Supply 3 Name: ThegioiIC; Size: 0805; Mounting Technology: SMT; Rated Power: 1/8 W; Datasheet: https://www.vishay.com/docs/20035/dcrcwe3.pdf; Resistance: 120k; ComponentLink1Description: Datasheet link; ComponentLink1URL: *; Supply 1 URL: https://www.digikey.com/en/products/detail/vishay-dale/CRCW0805120KJNEA/1175248; Supply 2 URL: https://www.mouser.vn/ProductDetail/Vishay-Dale/CRCW0805120KJNEA?qs=RG5hTW80OZISYDThER7IDg%3D%3D; Supply 3 SN: *; Supply 3 URL: https://www.thegioiic.com/dien-tro-120-kohm-0805-5
footprint RESC2012X04N (Chip Resistor, 2-Leads, Body 2,00x1,20mm, IPC Medium Density)
pins: 1, 2

## 0008051251
designator R?, comment 1.2M, 1/8W
RES, 1.2M Ohm, size 0805, 1%; Manufacture  Name: Vishay Dale; Manufacture  SN: CRCW08051M20FKEA; Resistance tolerance: +/-1%; Supply 1 Name: DigiKey; Supply 1 SN: 541-1.20MCTR-ND; Supply 2 Name: Mouser; Supply 2 SN: 71-CRCW08051M20FKEA; Size: 0805; Mounting Technology: SMT; Rated Power: 1/8 W; Datasheet: https://www.vishay.com/docs/20035/dcrcwe3.pdf; Resistance: 1.2M; ComponentLink1Description: Datasheet link; ComponentLink1URL: *; Supply 1 URL: https://www.digikey.com/en/products/detail/vishay-dale/CRCW08051M20FKEA/1176024; Supply 2 URL: https://www.mouser.vn/ProductDetail/Vishay-Dale/CRCW08051M20FKEA?qs=uQdQW2oKfUVC5dKjGtshLg%3D%3D; Supply 3 Name: *; Supply 3 SN: *; Supply 3 URL: *
footprint RESC2012X04N (Chip Resistor, 2-Leads, Body 2,00x1,20mm, IPC Medium Density)
pins: 1, 2

## 0008051255
designator R?, comment 1.2M, 1/8W
RES, 1.2M Ohm, size 0805, 5%; Manufacture  Name: Vishay Dale; Manufacture  SN: CRCW08051M20JNEA; Resistance tolerance: +/-5%; Supply 1 Name: DigiKey; Supply 1 SN: 541-1.2MATR-ND; Supply 2 Name: Mouser; Supply 2 SN: 71-CRCW08051M20JNEA; Supply 3 Name: ThegioiIC; Size: 0805; Mounting Technology: SMT; Rated Power: 1/8 W; Datasheet: https://www.vishay.com/docs/20035/dcrcwe3.pdf; Resistance: 1.2M; ComponentLink1Description: Datasheet link; ComponentLink1URL: *; Supply 1 URL: https://www.digikey.com/en/products/detail/vishay-dale/CRCW08051M20JNEA/1175272; Supply 2 URL: https://www.mouser.vn/ProductDetail/Vishay-Dale/CRCW08051M20JNEA?qs=1CkV0QOCgMrKOwOc4yedvw%3D%3D; Supply 3 SN: *; Supply 3 URL: https://www.thegioiic.com/dien-tro-1-2-mohm-0805-5
footprint RESC2012X04N (Chip Resistor, 2-Leads, Body 2,00x1,20mm, IPC Medium Density)
pins: 1, 2

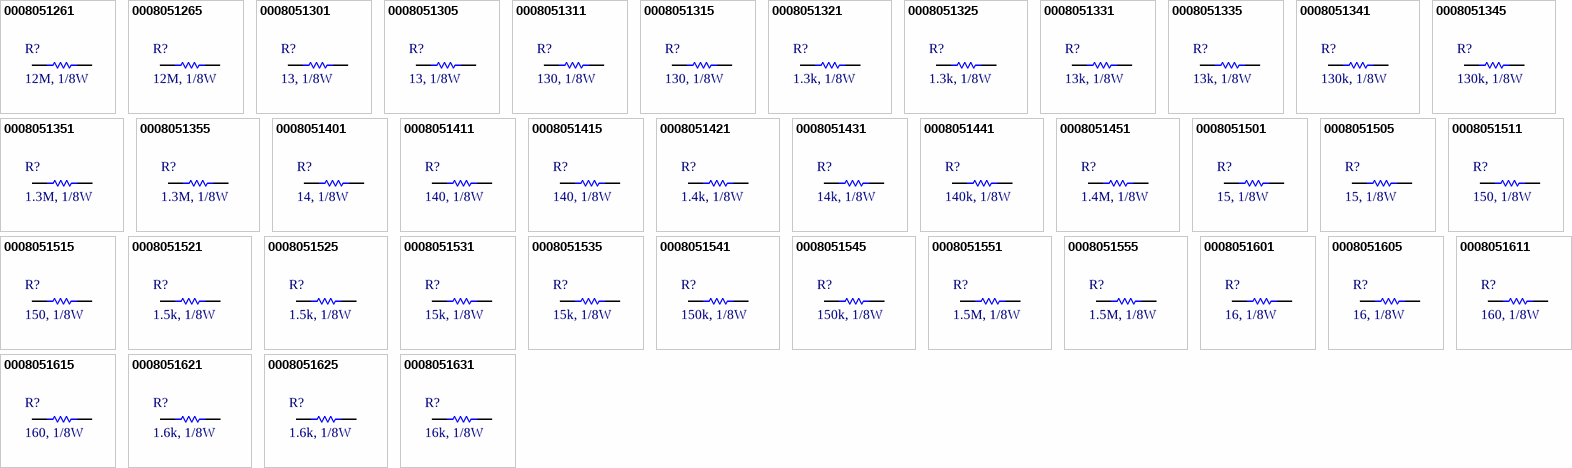
[diagram p1: symbols 0008051261 to 0008051631]

## 0008051261
designator R?, comment 12M, 1/8W
RES, 12M Ohm, size 0805, 1%; Resistance tolerance: +/-1%; Resistance: 12.4M; Supply 1 Name: DigiKey; Supply 1 SN: 2679-CR0805-8W-1245FTTR-ND; Size: 0805; Mounting Technology: SMT; Rated Power: 1/8 W; Datasheet: https://page.venkel.com/hubfs/Resources/Datasheets/CR-Series.pdf; ComponentLink1Description: Datasheet link; ComponentLink1URL: *; Supply 1 URL: https://www.digikey.com/en/products/detail/venkel/CR0805-8W-1245FT/12332325?s=N4IgjCBcoExaBjKAzAhgGwM4FMA0IB7KAbXAAYAOAdgE4QBdfABwBcoQBlFgJwEsA7AOYgAvvgDM8EEkhoseQiXBhxERiFbsufIaPxgYNCNGkoMOfEUilxNcTAoNmbSJx4DhYkDEoBWKTJyForW4DAAdAAsAAQAsgDyABYAtphOGi4gAKr8vCzxyLHYqJgArtzYeiAAtMaIZvKWSr6REPgwAGy0IPi%2BHQwig0A; Supply 2 Name: *; Supply 2 SN: *; Supply 2 URL: *; Supply 3 Name: *; Supply 3 SN: *; Supply 3 URL: *; Manufacture  Name: *; Manufacture  SN: *
footprint RESC2012X04N (Chip Resistor, 2-Leads, Body 2,00x1,20mm, IPC Medium Density)
pins: 1, 2

## 0008051265
designator R?, comment 12M, 1/8W
RES, 12M Ohm, size 0805, 5%; Resistance tolerance: +/-5%; Supply 1 Name: DigiKey; Supply 1 SN: CRCW080512M0JPEAHR-ND; Size: 0805; Mounting Technology: SMT; Rated Power: 1/8 W; Datasheet: https://page.venkel.com/hubfs/Resources/Datasheets/CR-Series.pdf; Resistance: 12M; ComponentLink1Description: Datasheet link; ComponentLink1URL: *; Supply 1 URL: https://www.digikey.com/en/products/detail/vishay-dale/CRCW080512M0JPEAHR/5073763?s=N4IgjCBcoExaBjKAzAhgGwM4FMA0IB7KAbXAAYAOAdgE4QBdfABwBcoQBlFgJwEsA7AOYgAvvgDM8EEkhoseQiRAwArGUmMQrdlz5DR%2BMDBoRo0lBhz4ikUuJriYFBszaROPAcLHLKKqTJyVoq24DAABACyAPIAFgC2mC5abiAAqvy8LNHIkdiomACu3NgGIAC0pogW8tZKKgAsEPQirUA; Supply 2 Name: *; Supply 2 SN: *; Supply 2 URL: *; Supply 3 Name: *; Supply 3 SN: *; Supply 3 URL: *; Manufacture  Name: *; Manufacture  SN: *
footprint RESC2012X04N (Chip Resistor, 2-Leads, Body 2,00x1,20mm, IPC Medium Density)
pins: 1, 2

## 0008051301
designator R?, comment 13, 1/8W
RES, 13 Ohm, size 0805, 1%; Manufacture  Name: Vishay Dale; Manufacture  SN: CRCW080513R0FKEA; Resistance tolerance: +/-1%; Resistance: 13; Supply 1 Name: DigiKey; Supply 1 SN: 541-13.0CTR-ND; Supply 2 Name: Mouser; Supply 2 SN: 71-CRCW0805-13; Supply 3 Name: ThegioiIC; Size: 0805; Mounting Technology: SMT; Rated Power: 1/8 W; Datasheet: https://www.vishay.com/docs/20035/dcrcwe3.pdf; ComponentLink1Description: Datasheet link; ComponentLink1URL: *; Supply 1 URL: https://www.digikey.com/en/products/detail/vishay-dale/CRCW080513R0FKEA/1175421; Supply 2 URL: https://www.mouser.vn/ProductDetail/Vishay-Dale/CRCW080513R0FKTA?qs=ZOFh%252BZEbFTD7SfeHjm78bA%3D%3D; Supply 3 SN: *; Supply 3 URL: https://www.mouser.vn/ProductDetail/Vishay-Dale/CRCW080513R0FKTA?qs=ZOFh%252BZEbFTD7SfeHjm78bA%3D%3D
footprint RESC2012X04N (Chip Resistor, 2-Leads, Body 2,00x1,20mm, IPC Medium Density)
pins: 1, 2

## 0008051305
designator R?, comment 13, 1/8W
RES, 13 Ohm, size 0805, 5%; Manufacture  Name: Vishay Dale; Manufacture  SN: CRCW080513R0JNEA; Resistance tolerance: +/-5%; Resistance: 13; Supply 1 Name: DigiKey; Supply 1 SN: 541-13.0CTR-ND; Supply 2 Name: Mouser; Supply 2 SN: 71-CRCW080513R0JNEA; Supply 3 Name: ThegioiIC; Size: 0805; Mounting Technology: SMT; Rated Power: 1/8 W; Datasheet: https://www.vishay.com/docs/20035/dcrcwe3.pdf; ComponentLink1Description: Datasheet link; ComponentLink1URL: *; Supply 1 URL: https://www.digikey.com/en/products/detail/vishay-dale/CRCW080513R0JNEA/1175153; Supply 2 URL: https://www.mouser.vn/ProductDetail/Vishay-Dale/CRCW080513R0JNEA?qs=0y7Riw94L4g6KLaYV7LaYA%3D%3D; Supply 3 SN: *; Supply 3 URL: https://www.thegioiic.com/dien-tro-13-ohm-0805-5-
footprint RESC2012X04N (Chip Resistor, 2-Leads, Body 2,00x1,20mm, IPC Medium Density)
pins: 1, 2

## 0008051311
designator R?, comment 130, 1/8W
RES, 130 Ohm, size 0805, 1%; Manufacture  Name: Vishay Dale; Manufacture  SN: CRCW0805130RFKEA; Resistance tolerance: +/-1%; Resistance: 130; Supply 1 Name: DigiKey; Supply 1 SN: 541-130CTR-ND; Supply 2 Name: Mouser; Supply 2 SN: 71-CRCW0805-130; Size: 0805; Mounting Technology: SMT; Rated Power: 1/8 W; Datasheet: https://www.vishay.com/docs/20035/dcrcwe3.pdf; ComponentLink1Description: Datasheet link; ComponentLink1URL: *; Supply 1 URL: https://www.digikey.com/en/products/detail/vishay-dale/CRCW0805130RFKEA/1175535; Supply 2 URL: https://www.mouser.vn/ProductDetail/Vishay-Dale/CRCW0805130RFKTA?qs=giVM%252B3aTMKxKqHz68BaXog%3D%3D; Supply 3 Name: *; Supply 3 SN: *; Supply 3 URL: *
footprint RESC2012X04N (Chip Resistor, 2-Leads, Body 2,00x1,20mm, IPC Medium Density)
pins: 1, 2

## 0008051315
designator R?, comment 130, 1/8W
RES, 130 Ohm, size 0805, 5%; Manufacture  Name: Vishay Dale; Manufacture  SN: CRCW0805130RFKEA; Resistance tolerance: +/-5%; Resistance: 130; Supply 1 Name: DigiKey; Supply 1 SN: 541-130ATR-ND; Supply 2 Name: Mouser; Supply 2 SN: 71-CRCW0805130RJNEA; Supply 3 Name: ThegioiIC; Size: 0805; Mounting Technology: SMT; Rated Power: 1/8 W; Datasheet: https://www.vishay.com/docs/20035/dcrcwe3.pdf; ComponentLink1Description: Datasheet link; ComponentLink1URL: *; Supply 1 URL: https://www.digikey.com/en/products/detail/vishay-dale/CRCW0805130RJNEA/1175177; Supply 2 URL: https://www.mouser.vn/ProductDetail/Vishay-Dale/CRCW0805130RJNEA?qs=0y7Riw94L4hSzyuZjO1BEg%3D%3D; Supply 3 SN: *; Supply 3 URL: https://www.thegioiic.com/dien-tro-130-ohm-0805-5
footprint RESC2012X04N (Chip Resistor, 2-Leads, Body 2,00x1,20mm, IPC Medium Density)
pins: 1, 2

## 0008051321
designator R?, comment 1.3k, 1/8W
RES, 1.3k Ohm, size 0805, 1%; Manufacture  Name: Vishay Dale; Manufacture  SN: CRCW08051K30FKEA; Resistance tolerance: +/-1%; Supply 1 Name: DigiKey; Supply 1 SN: 541-1.30KCTR-ND; Supply 2 Name: Mouser; Supply 2 SN: 71-CRCW0805-1.3K-E3; Size: 0805; Mounting Technology: SMT; Rated Power: 1/8 W; Datasheet: https://www.vishay.com/docs/20035/dcrcwe3.pdf; Resistance: 1.3k; ComponentLink1Description: Datasheet link; ComponentLink1URL: *; Supply 1 URL: https://www.digikey.com/en/products/detail/vishay-dale/CRCW08051K30FKEA/1175649; Supply 2 URL: https://www.mouser.vn/ProductDetail/Vishay-Dale/CRCW08051K30FKEA?qs=DZvKvnD5UYWy1USUvWuhZQ%3D%3D; Supply 3 Name: *; Supply 3 SN: *; Supply 3 URL: *
footprint RESC2012X04N (Chip Resistor, 2-Leads, Body 2,00x1,20mm, IPC Medium Density)
pins: 1, 2

## 0008051325
designator R?, comment 1.3k, 1/8W
RES, 1.3k Ohm, size 0805, 5%; Manufacture  Name: Vishay Dale; Manufacture  SN: CRCW08051K30JNEA; Resistance tolerance: +/-5%; Supply 1 Name: DigiKey; Supply 1 SN: 541-1.3KATR-ND; Supply 2 Name: Mouser; Supply 2 SN: 71-CRCW08051K30JNEA; Supply 3 Name: ThegioiIC; Size: 0805; Mounting Technology: SMT; Rated Power: 1/8 W; Datasheet: https://www.vishay.com/docs/20035/dcrcwe3.pdf; Resistance: 1.3k; ComponentLink1Description: Datasheet link; ComponentLink1URL: *; Supply 1 URL: https://www.digikey.com/en/products/detail/vishay-dale/CRCW08051K30JNEA/1175201; Supply 2 URL: https://www.mouser.vn/ProductDetail/Vishay-Dale/CRCW08051K30JNEA?qs=DZvKvnD5UYXM63M39f9SOw%3D%3D; Supply 3 SN: *; Supply 3 URL: https://www.thegioiic.com/dien-tro-1-3-kohm-0805-5
footprint RESC2012X04N (Chip Resistor, 2-Leads, Body 2,00x1,20mm, IPC Medium Density)
pins: 1, 2

## 0008051331
designator R?, comment 13k, 1/8W
RES, 13k Ohm, size 0805, 1%; Manufacture  Name: Vishay Dale; Manufacture  SN: CRCW080513K0FKEA; Resistance tolerance: +/-1%; Supply 1 Name: DigiKey; Supply 1 SN: 541-13.0KCTR-ND; Supply 2 Name: Mouser; Supply 2 SN: 71-CRCW080513K0FKEAC; Supply 3 Name: ThegioiIC; Size: 0805; Mounting Technology: SMT; Rated Power: 1/8 W; Datasheet: https://www.vishay.com/docs/20035/dcrcwe3.pdf; Resistance: 13k; ComponentLink1Description: Datasheet link; ComponentLink1URL: *; Supply 1 URL: https://www.digikey.com/en/products/detail/vishay-dale/CRCW080513K0FKEA/1175763; Supply 2 URL: https://www.mouser.vn/ProductDetail/Vishay-Dale/CRCW080513K0FKEAC?qs=E3Y5ESvWgWPE3tvm%252BBlG8w%3D%3D; Supply 3 SN: *; Supply 3 URL: https://www.mouser.vn/ProductDetail/Vishay-Dale/CRCW08051K30FKEA?qs=DZvKvnD5UYWy1USUvWuhZQ%3D%3D
footprint RESC2012X04N (Chip Resistor, 2-Leads, Body 2,00x1,20mm, IPC Medium Density)
pins: 1, 2

## 0008051335
designator R?, comment 13k, 1/8W
RES, 13k Ohm, size 0805, 5%; Manufacture  Name: Vishay Dale; Manufacture  SN: CRCW080513K0JNEA; Resistance tolerance: +/-5%; Supply 1 Name: DigiKey; Supply 1 SN: 541-13KATR-ND; Supply 2 Name: Mouser; Supply 2 SN: 71-CRCW080513K0JNEA; Supply 3 Name: ThegioiIC; Size: 0805; Mounting Technology: SMT; Rated Power: 1/8 W; Datasheet: https://www.vishay.com/docs/20035/dcrcwe3.pdf; Resistance: 13k; ComponentLink1Description: Datasheet link; ComponentLink1URL: *; Supply 1 URL: https://www.digikey.com/en/products/detail/vishay-dale/CRCW080513K0JNEA/1175225; Supply 2 URL: https://www.mouser.vn/ProductDetail/Vishay-Dale/CRCW080513K0JNEA?qs=0y7Riw94L4jwZQ%2FJsMqPzw%3D%3D; Supply 3 SN: *; Supply 3 URL: https://www.thegioiic.com/dien-tro-13-kohm-0805-5
footprint RESC2012X04N (Chip Resistor, 2-Leads, Body 2,00x1,20mm, IPC Medium Density)
pins: 1, 2

## 0008051341
designator R?, comment 130k, 1/8W
RES, 130k Ohm, size 0805, 1%; Manufacture  Name: Vishay Dale; Manufacture  SN: CRCW0805130KFKEAC; Resistance tolerance: +/-1%; Supply 1 Name: DigiKey; Supply 1 SN: 541-CRCW0805130KFKEACTR-ND; Supply 2 Name: Mouser; Supply 2 SN: 71-CRCW0805-130K-E3; Supply 3 Name: ThegioiIC; Size: 0805; Mounting Technology: SMT; Rated Power: 1/8 W; Datasheet: https://www.vishay.com/docs/28773/crcwce3.pdf; Resistance: 130k; ComponentLink1Description: Datasheet link; ComponentLink1URL: *; Supply 1 URL: https://www.digikey.com/en/products/detail/vishay-dale/CRCW0805130KFKEAC/7922604; Supply 2 URL: https://www.mouser.vn/ProductDetail/Vishay-Dale/CRCW0805130KFKEA?qs=0y7Riw94L4iHKWUxGOctIA%3D%3D; Supply 3 SN: *; Supply 3 URL: https://www.thegioiic.com/dien-tro-133-kohm-0805-1-
footprint RESC2012X04N (Chip Resistor, 2-Leads, Body 2,00x1,20mm, IPC Medium Density)
pins: 1, 2

## 0008051345
designator R?, comment 130k, 1/8W
RES, 130k Ohm, size 0805, 5%; Manufacture  Name: Vishay Dale; Manufacture  SN: CRCW0805130KJNEA; Resistance tolerance: +/-5%; Supply 1 Name: DigiKey; Supply 1 SN: 541-130KATR-ND; Supply 2 Name: Mouser; Supply 2 SN: 71-CRCW0805130KJNEA; Supply 3 Name: ThegioiIC; Size: 0805; Mounting Technology: SMT; Rated Power: 1/8 W; Datasheet: https://www.vishay.com/docs/20035/dcrcwe3.pdf; Resistance: 130k; ComponentLink1Description: Datasheet link; ComponentLink1URL: *; Supply 1 URL: https://www.digikey.com/en/products/detail/vishay-dale/CRCW0805130KJNEA/1175249; Supply 2 URL: https://www.mouser.vn/ProductDetail/Vishay-Dale/CRCW0805130KJNEA?qs=0y7Riw94L4hrk%2FEo6puJGw%3D%3D; Supply 3 SN: *; Supply 3 URL: https://www.thegioiic.com/dien-tro-130-kohm-0805-5
footprint RESC2012X04N (Chip Resistor, 2-Leads, Body 2,00x1,20mm, IPC Medium Density)
pins: 1, 2

## 0008051351
designator R?, comment 1.3M, 1/8W
RES, 1.3M Ohm, size 0805, 1%; Manufacture  Name: Vishay Dale; Manufacture  SN: CRCW08051M30FKEA; Resistance tolerance: +/-1%; Supply 1 Name: DigiKey; Supply 1 SN: 541-1.30MCTR-ND; Supply 2 Name: Mouser; Supply 2 SN: 71-CRCW08051M30FKEA; Size: 0805; Mounting Technology: SMT; Rated Power: 1/8 W; Datasheet: https://www.vishay.com/docs/20035/dcrcwe3.pdf; Resistance: 1.3M; ComponentLink1Description: Datasheet link; ComponentLink1URL: *; Supply 1 URL: https://www.digikey.com/en/products/detail/vishay-dale/CRCW08051M30FKEA/1176028; Supply 2 URL: https://www.mouser.vn/ProductDetail/Vishay-Dale/CRCW08051M30FKEA?qs=1CkV0QOCgMqfDDw%2F4HOy0g%3D%3D; Supply 3 Name: *; Supply 3 SN: *; Supply 3 URL: *
footprint RESC2012X04N (Chip Resistor, 2-Leads, Body 2,00x1,20mm, IPC Medium Density)
pins: 1, 2

## 0008051355
designator R?, comment 1.3M, 1/8W
RES, 1.3M Ohm, size 0805, 5%; Manufacture  Name: Vishay Dale; Manufacture  SN: CRCW08051M30JNEAC; Resistance tolerance: +/-5%; Supply 1 Name: DigiKey; Supply 1 SN: CRCW08051M30JNEAC-ND; Supply 2 Name: Mouser; Supply 2 SN: 71-CRCW08051M30JNEA; Supply 3 Name: ThegioiIC; Size: 0805; Mounting Technology: SMT; Rated Power: 1/8 W; Datasheet: https://www.vishay.com/docs/28773/crcwce3.pdf; Resistance: 1.3M; ComponentLink1Description: Datasheet link; ComponentLink1URL: *; Supply 1 URL: https://www.digikey.com/en/products/detail/vishay-dale/CRCW08051M30JNEAC/7923851; Supply 2 URL: https://www.mouser.vn/ProductDetail/Vishay-Dale/CRCW08051M30JNEA?qs=1CkV0QOCgMqStvDAyUDctQ%3D%3D; Supply 3 SN: *; Supply 3 URL: https://www.thegioiic.com/dien-tro-1-3-mohm-0805-5
footprint RESC2012X04N (Chip Resistor, 2-Leads, Body 2,00x1,20mm, IPC Medium Density)
pins: 1, 2

## 0008051401
designator R?, comment 14, 1/8W
RES, 14 Ohm, size 0805, 1%; Manufacture  Name: Vishay Dale; Manufacture  SN: CRCW080514R0FKEA; Resistance tolerance: +/-1%; Resistance: 14; Supply 1 Name: DigiKey; Supply 1 SN: 541-14.0CTR-ND; Supply 2 Name: Mouser; Supply 2 SN: 71-CRCW080514R0FKEA; Size: 0805; Mounting Technology: SMT; Rated Power: 1/8 W; Datasheet: https://www.vishay.com/docs/20035/dcrcwe3.pdf; ComponentLink1Description: Datasheet link; ComponentLink1URL: *; Supply 1 URL: https://www.digikey.com/en/products/detail/vishay-dale/CRCW080514R0FKEA/1175424; Supply 2 URL: https://www.mouser.vn/ProductDetail/Vishay-Dale/CRCW080514R0FKEA?qs=bMjB6bAaLENYJ14k%252BREMxw%3D%3D; Supply 3 Name: *; Supply 3 SN: *; Supply 3 URL: *
footprint RESC2012X04N (Chip Resistor, 2-Leads, Body 2,00x1,20mm, IPC Medium Density)
pins: 1, 2

## 0008051411
designator R?, comment 140, 1/8W
RES, 140 Ohm, size 0805, 1%; Manufacture  Name: Vishay Dale; Manufacture  SN: CRCW0805140RFKEA; Resistance tolerance: +/-1%; Resistance: 140; Supply 1 Name: DigiKey; Supply 1 SN: 541-140CTR-ND; Supply 2 Name: Mouser; Supply 2 SN: 71-CRCW0805-140-E3; Size: 0805; Mounting Technology: SMT; Rated Power: 1/8 W; Datasheet: https://www.vishay.com/docs/20035/dcrcwe3.pdf; ComponentLink1Description: Datasheet link; ComponentLink1URL: *; Supply 1 URL: https://www.digikey.com/en/products/detail/vishay-dale/CRCW0805140RFKEA/1175538; Supply 2 URL: https://www.mouser.vn/ProductDetail/Vishay-Dale/CRCW0805140RFKEA?qs=0y7Riw94L4jPO4%252BnYwmRgg%3D%3D; Supply 3 Name: *; Supply 3 SN: *; Supply 3 URL: *
footprint RESC2012X04N (Chip Resistor, 2-Leads, Body 2,00x1,20mm, IPC Medium Density)
pins: 1, 2

## 0008051415
designator R?, comment 140, 1/8W
RES, 140 Ohm, size 0805, 5%; Manufacture  Name: Vishay Dale; Manufacture  SN: CRCW0805140RJNTA; Resistance tolerance: +/-5%; Resistance: 140; Supply 1 Name: DigiKey; Supply 1 SN: CRCW0805140RJNTA-ND; Size: 0805; Mounting Technology: SMT; Rated Power: 1/8 W; Datasheet: https://www.vishay.com/docs/20008/dcrcw.pdf; ComponentLink1Description: Datasheet link; ComponentLink1URL: *; Supply 1 URL: https://www.digikey.com/en/products/detail/vishay-dale/CRCW0805140RJNTA/5073823?s=N4IgjCBcoExaBjKAzAhgGwM4FMA0IB7KAbXAAYAOAdgE4QBdfABwBcoQBlFgJwEsA7AOYgAvvgDM8EEkhoseQiRAwArGUmMQrdlz5DR%2BMDBoRo0lBhz4ikUuJriYFBszaROPAcLHLKKqTJyVoq24AAsZAAEAPIAFgC2mC5abiAAqvy8LNHIALLYqJgArtzYBiAAtKaIFvLWSiphEPQirUA; Supply 2 Name: *; Supply 2 SN: *; Supply 2 URL: *; Supply 3 Name: *; Supply 3 SN: *; Supply 3 URL: *
footprint RESC2012X04N (Chip Resistor, 2-Leads, Body 2,00x1,20mm, IPC Medium Density)
pins: 1, 2